# Altium integrated library PIC16F18313.IntLib: 1 symbol
Pins are listed as number, name and electrical type; pins without a type are passive.

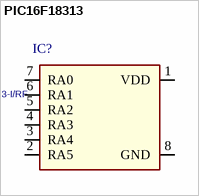
[diagram p0: symbol PIC16F18313]

## PIC16F18313
designator IC?, comment PIC16F18313-I/RF
PDF: http://www.microchip.com/mymicrochip/filehandler.aspx?ddocname=en568224; PRICE: 0.79000; ID: PIC16F18313-I/RF; BUY_LINK: http://www.digikey.com/product-detail/en/PIC16F18313-I%2FRF/PIC16F18313-I%2FRF-ND/5401248
footprint UDFN8
pins: 1 VDD (power), 2 RA5 (io), 3 RA4 (io), 4 RA3 (io), 5 RA2 (io), 6 RA1 (io), 7 RA0 (io), 8 GND (power)